# Altium integrated library Dallas Peripheral Lock Circuit.IntLib: 8 symbols
Pins are listed as number, name and electrical type; pins without a type are passive.

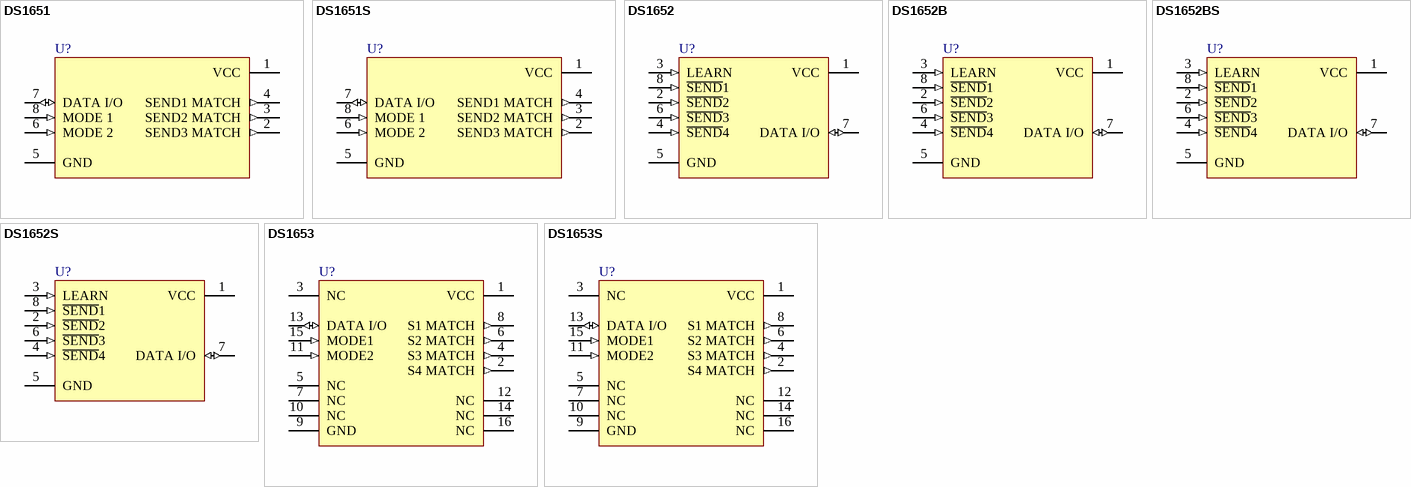
[diagram p0: symbols DS1651 to DS1653S]

## DS1651
designator U?
3-Code Lock; Published: 13-Oct-2000; LatestRevisionDate: 17-Jul-2002; LatestRevisionNote: Re-released for DXP Platform.; DatasheetVersion: 19-Apr-1993; PackageVersion: 1999; PackageReference: DIP8; Publisher: Altium Limited; PackageDescription: DIP, 8-Pin, Row Spacing 7.62 mm, Pitch 2.54 mm; ComponentLink1Description: Manufacturer Link; ComponentLink1URL: http://www.maxim-ic.com/
footprint DIP8 (DIP, 8-Leads, Row Spacing 7.62mm, Pitch 2.54mm, Body 9.65x6.35mm)
pins: 1 VCC (power), 2 SEND3 MATCH (out), 3 SEND2 MATCH (out), 4 SEND1 MATCH (out), 5 GND (power), 6 MODE 2 (in), 7 DATA I/O (io), 8 MODE 1 (in)

## DS1651S
designator U?
3-Code Lock; Published: 13-Oct-2000; LatestRevisionDate: 13-Apr-2006; LatestRevisionNote: IPC-7351 Footprint Added.; DatasheetVersion: 19-Apr-1993; PackageVersion: 1994; PackageReference: SOIC8WA; Publisher: Altium Limited; PackageDescription: 8-Pin Small Outline Package 1.27 mm Pitch; ComponentLink1Description: Manufacturer Link; ComponentLink1URL: http://www.maxim-ic.com/
footprint SOIC8WA_N (SOP, 8-Leads, Body 5.3x5.3mm, Pitch 1.27mm, IPC Medium Density)
footprint SOIC8WA_L (SOP, 8-Leads, Body 5.3x5.3mm, Pitch 1.27mm, IPC High Density)
footprint SOIC8WA_M (SOP, 8-Leads, Body 5.3x5.3mm, Pitch 1.27mm, IPC Low Density)
pins: 1 VCC (power), 2 SEND3 MATCH (out), 3 SEND2 MATCH (out), 4 SEND1 MATCH (out), 5 GND (power), 6 MODE 2 (in), 7 DATA I/O (io), 8 MODE 1 (in)

## DS1652
designator U?
Key Match Memory System; Published: 13-Oct-2000; LatestRevisionDate: 17-Jul-2002; LatestRevisionNote: Re-released for DXP Platform.; DatasheetVersion: 19-Apr-1993; PackageVersion: 1999; PackageReference: DIP8; Publisher: Altium Limited; PackageDescription: DIP, 8-Pin, Row Spacing 7.62 mm, Pitch 2.54 mm; ComponentLink1Description: Manufacturer Link; ComponentLink1URL: http://www.maxim-ic.com/
footprint DIP8 (DIP, 8-Leads, Row Spacing 7.62mm, Pitch 2.54mm, Body 9.65x6.35mm)
pins: 1 VCC (power), 2 ~{SEND}2 (in), 3 LEARN (in), 4 ~{SEND}4 (in), 5 GND (power), 6 ~{SEND}3 (in), 7 DATA I/O (io), 8 ~{SEND}1 (in)

## DS1652B
designator U?
Code Memory Key; Published: 13-Oct-2000; LatestRevisionDate: 17-Jul-2002; LatestRevisionNote: Re-released for DXP Platform.; DatasheetVersion: 19-Apr-1993; PackageVersion: 1999; PackageReference: DIP8; Publisher: Altium Limited; PackageDescription: DIP, 8-Pin, Row Spacing 7.62 mm, Pitch 2.54 mm; ComponentLink1Description: Manufacturer Link; ComponentLink1URL: http://www.maxim-ic.com/
footprint DIP8 (DIP, 8-Leads, Row Spacing 7.62mm, Pitch 2.54mm, Body 9.65x6.35mm)
pins: 1 VCC (power), 2 ~{SEND}2 (in), 3 LEARN (in), 4 ~{SEND}4 (in), 5 GND (power), 6 ~{SEND}3 (in), 7 DATA I/O (io), 8 ~{SEND}1 (in)

## DS1652BS
designator U?
Code Memory Key; Published: 13-Oct-2000; LatestRevisionDate: 13-Apr-2006; LatestRevisionNote: IPC-7351 Footprint Added.; DatasheetVersion: 19-Apr-1993; PackageVersion: 1994; PackageReference: SOIC8WA; Publisher: Altium Limited; PackageDescription: 8-Pin Small Outline Package 1.27 mm Pitch; ComponentLink1Description: Manufacturer Link; ComponentLink1URL: http://www.maxim-ic.com/
footprint SOIC8WA_N (SOP, 8-Leads, Body 5.3x5.3mm, Pitch 1.27mm, IPC Medium Density)
footprint SOIC8WA_L (SOP, 8-Leads, Body 5.3x5.3mm, Pitch 1.27mm, IPC High Density)
footprint SOIC8WA_M (SOP, 8-Leads, Body 5.3x5.3mm, Pitch 1.27mm, IPC Low Density)
pins: 1 VCC (power), 2 ~{SEND}2 (in), 3 LEARN (in), 4 ~{SEND}4 (in), 5 GND (power), 6 ~{SEND}3 (in), 7 DATA I/O (io), 8 ~{SEND}1 (in)

## DS1652S
designator U?
Key Match Memory System; Published: 13-Oct-2000; LatestRevisionDate: 13-Apr-2006; LatestRevisionNote: IPC-7351 Footprint Added.; DatasheetVersion: 19-Apr-1993; PackageVersion: 1994; PackageReference: SOIC8WA; Publisher: Altium Limited; PackageDescription: 8-Pin Small Outline Package 1.27 mm Pitch; ComponentLink1Description: Manufacturer Link; ComponentLink1URL: http://www.maxim-ic.com/
footprint SOIC8WA_N (SOP, 8-Leads, Body 5.3x5.3mm, Pitch 1.27mm, IPC Medium Density)
footprint SOIC8WA_L (SOP, 8-Leads, Body 5.3x5.3mm, Pitch 1.27mm, IPC High Density)
footprint SOIC8WA_M (SOP, 8-Leads, Body 5.3x5.3mm, Pitch 1.27mm, IPC Low Density)
pins: 1 VCC (power), 2 ~{SEND}2 (in), 3 LEARN (in), 4 ~{SEND}4 (in), 5 GND (power), 6 ~{SEND}3 (in), 7 DATA I/O (io), 8 ~{SEND}1 (in)

## DS1653
designator U?
4-Code Lock; Note: Pin numbers 3, 5, 7, 10, 12, 14 and 16 are Not Connected (NC); Published: 13-Oct-2000; LatestRevisionDate: 17-Jul-2002; LatestRevisionNote: Re-released for DXP Platform.; DatasheetVersion: 19-Apr-1993; PackageVersion: 1999; PackageReference: DIP16; Publisher: Altium Limited; PackageDescription: DIP, 16-Pin, Row Spacing 7.62 mm, Pitch 2.54 mm; ComponentLink1Description: Manufacturer Link; ComponentLink1URL: http://www.maxim-ic.com/
footprint DIP16 (DIP, 16-Leads, Row Spacing 7.62mm, Pitch 2.54mm, Body 19.31x6.35mm)
pins: 1 VCC (power), 2 S4 MATCH (out), 3 NC, 4 S3 MATCH (out), 5 NC, 6 S2 MATCH (out), 7 NC, 8 S1 MATCH (out), 9 GND (power), 10 NC, 11 MODE2 (in), 12 NC, 13 DATA I/O (io), 14 NC, 15 MODE1 (in), 16 NC

## DS1653S
designator U?
4-Code Lock; Note: Pin numbers 3, 5, 7, 10, 12, 14 and 16 are Not Connected (NC); Published: 13-Oct-2000; LatestRevisionDate: 13-Apr-2006; LatestRevisionNote: IPC-7351 Footprint Added.; DatasheetVersion: 19-Apr-1993; PackageVersion: 1999; PackageReference: SOIC16W; Publisher: Altium Limited; PackageDescription: 16-Pin Small Outline Integrated Circuit 1.27 mm Pitch; ComponentLink1Description: Manufacturer Link; ComponentLink1URL: http://www.maxim-ic.com/
footprint SOIC16W_N (SOIC, 16-Leads, Body 10.3x7.5mm, Pitch 1.27mm, IPC Medium Density)
footprint SOIC16W_L (SOIC, 16-Leads, Body 10.3x7.5mm, Pitch 1.27mm, IPC High Density)
footprint SOIC16W_M (SOIC, 16-Leads, Body 10.3x7.5mm, Pitch 1.27mm, IPC Low Density)
pins: 1 VCC (power), 2 S4 MATCH (out), 3 NC, 4 S3 MATCH (out), 5 NC, 6 S2 MATCH (out), 7 NC, 8 S1 MATCH (out), 9 GND (power), 10 NC, 11 MODE2 (in), 12 NC, 13 DATA I/O (io), 14 NC, 15 MODE1 (in), 16 NC